# EAGLE library part LL1592 (library lundahl)
LL1592
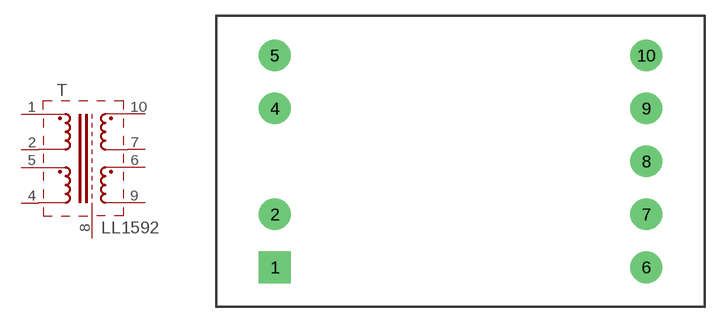
[diagram p29: symbol with the pads of LL1592; footprint LL1592]

Designator prefix T

## LL1592  [LL1592]
1  1  pas
2  2  pas
4  4  pas
5  5  pas
6  6  pas
7  7  pas
8  8  pas
9  9  pas
10  10  pas

## Footprint LL1592 (pad centres in mm)
LL1592
drill 1.422 pad 3.048 square: 1 -17.78,-10.16
drill 1.422 pad 3.048: 2 -17.78,-5.08; 4 -17.78,5.08; 5 -17.78,10.16; 6 17.78,-10.16; 7 17.78,-5.08; 8 17.78,0; 9 17.78,5.08; 10 17.78,10.16